# Altium footprint library BQ24079TRGTR.PcbLib: 1 footprints
Each footprint in its own frame and in the unit in brackets; x right, y up, seen from the top. Pads: shape width x height; smd on the part's side, far side on the other; paste and mask are expansions set on the pad; w line width, h text height; cw(c..) or ccw(c..) is an arc to the next point about the centre after c.
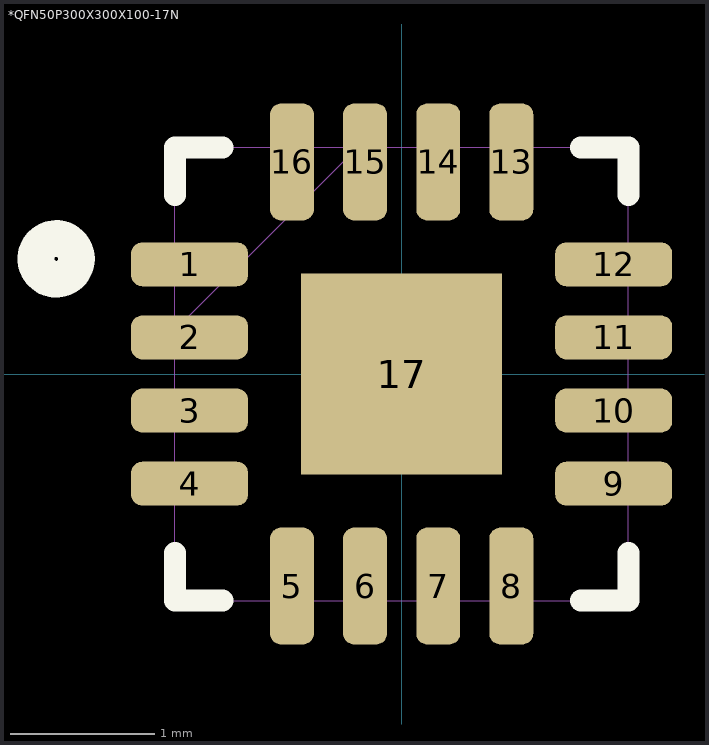
[diagram p0: the footprint, top view; thin cyan lines are the x and y axes]

## *QFN50P300X300X100-17N [mil]
pads (17):
  rrect50% 32x12 smd mask+2: 1(-58,30) 2(-58,10) 3(-58,-10) 4(-58,-30) 9(58,-30) 10(58,-10) 11(58,10) 12(58,30)
  rrect50% 12x32 smd mask+2: 5(-30,-58) 6(-10,-58) 7(10,-58) 8(30,-58) 13(30,58) 14(10,58) 15(-10,58) 16(-30,58)
  rect 55x55 smd paste-50: 17(0,0)
Top Overlay:
  circle w10: c-94.49,31.5 r5.57
  lines w6: -62,-49 -62,-62 -49,-62 ; -62,49 -62,62 -49,62 ; 49,-62 62,-62 62,-49 ; 49,62 62,62 62,49
Top Paste:
  region: 3,23 23,23 23,3 3,3
  region: 3,-3 23,-3 23,-23 3,-23
  region: -23,23 -3,23 -3,3 -23,3
  region: -23,-3 -3,-3 -3,-23 -23,-23
Mechanical 13:
  lines w0: -62,-62 -62,62 ; -62,-62 62,-62 ; -62,-62 -62,62 ; -62,-62 62,-62 ; -62,62 62,62 ; -62,62 62,62 ; 62,-62 62,62 ; 62,-62 62,62 ; -62,-35 -62,-24 -62,-35 ; -62,-16 -62,-4 -62,-16 ; -62,4 -62,16 -62,4 ; -62,12 -12,62 -62,12 ; -62,24 -62,35 -62,24 ; -35,-62 -24,-62 -35,-62 ; -35,62 -24,62 -35,62 ; -16,-62 -4,-62 -16,-62 ; -16,62 -4,62 -16,62 ; 4,-62 16,-62 4,-62 ; 4,62 16,62 4,62 ; 24,-62 35,-62 24,-62 ; 24,62 35,62 24,62 ; 62,-35 62,-24 62,-35 ; 62,-16 62,-4 62,-16 ; 62,4 62,16 62,4 ; 62,24 62,35 62,24
3D body: height 39.37, standoff 0, extent -59.06,-59.06 59.06,59.06